# EAGLE library part MAX17048G+ (library LinnesLab-Power)
Micropower 1-Cell/2-Cell Li+ ModelGauge ICs Check prices <https://pricing.snapeda.com/parts/MAX17048G%2B/Maxim%20Integrated/view-part?ref=eda>
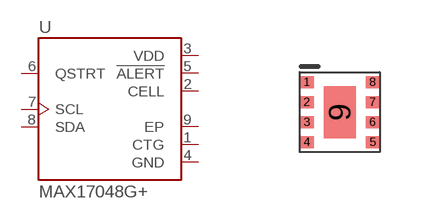
[diagram p8: symbol with the pads of 8-TDFN; footprint 8-TDFN]

Designator prefix U

## MAX17048G+ (AVAILABILITY: In Stock; DESCRIPTION: Battery Battery Monitor IC Lithium Ion 8-TDFN-EP (2x2); MF: Maxim Integrated; MP: MAX17048G+; PACKAGE: TDFN-8 Maxim; PRICE: None)  [8-TDFN]
1  CTG  pwr
2  CELL  pwr
3  VDD  pwr
4  GND  pwr
5  !ALERT  out
6  QSTRT  in
7  SCL  in
8  SDA
9  EP  pwr

## Footprint 8-TDFN (pad centres in mm)
smd 0.35 x 0.3: 1 -0.825,0.75; 2 -0.825,0.25; 3 -0.825,-0.25; 4 -0.825,-0.75; 5 0.825,-0.75; 6 0.825,-0.25; 7 0.825,0.25; 8 0.825,0.75
smd 0.8 x 1.3: 9 0,0